# EAGLE library part PAM2306AYPKE (library ComputeCalculator)
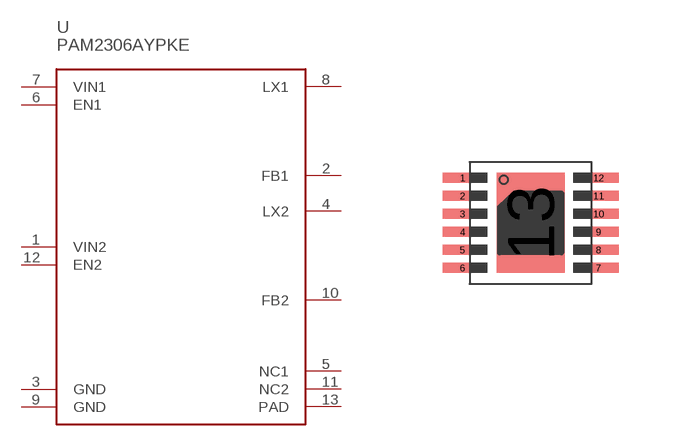
[diagram p0: symbol with the pads of WDFN_12L; footprint WDFN_12L]

Designator prefix -

## PAM2306AYPKE  [WDFN_12L]
1  VIN2
2  FB1
3  GND
4  LX2
5  NC1
6  EN1
7  VIN1
8  LX1
9  GND
10  FB2
11  NC2
12  EN2
13  PAD

## Footprint WDFN_12L (pad centres in mm)
smd 1 x 0.25: 1 -1.7,1.125; 2 -1.7,0.675; 3 -1.7,0.225; 4 -1.7,-0.225; 5 -1.7,-0.675; 6 -1.7,-1.125; 7 1.7,-1.125; 8 1.7,-0.675; 9 1.7,-0.225; 10 1.7,0.225; 11 1.7,0.675; 12 1.7,1.125
smd 1.7 x 2.5: 13 0,0